# Altium footprint library SDR_wt_PCBlib.PcbLib: 47 footprints (part 2 of 3)
Each footprint in its own frame and in the unit in brackets; x right, y up, seen from the top. Pads: shape width x height; smd on the part's side, far side on the other; paste and mask are expansions set on the pad; w line width, h text height; cw(c..) or ccw(c..) is an arc to the next point about the centre after c.
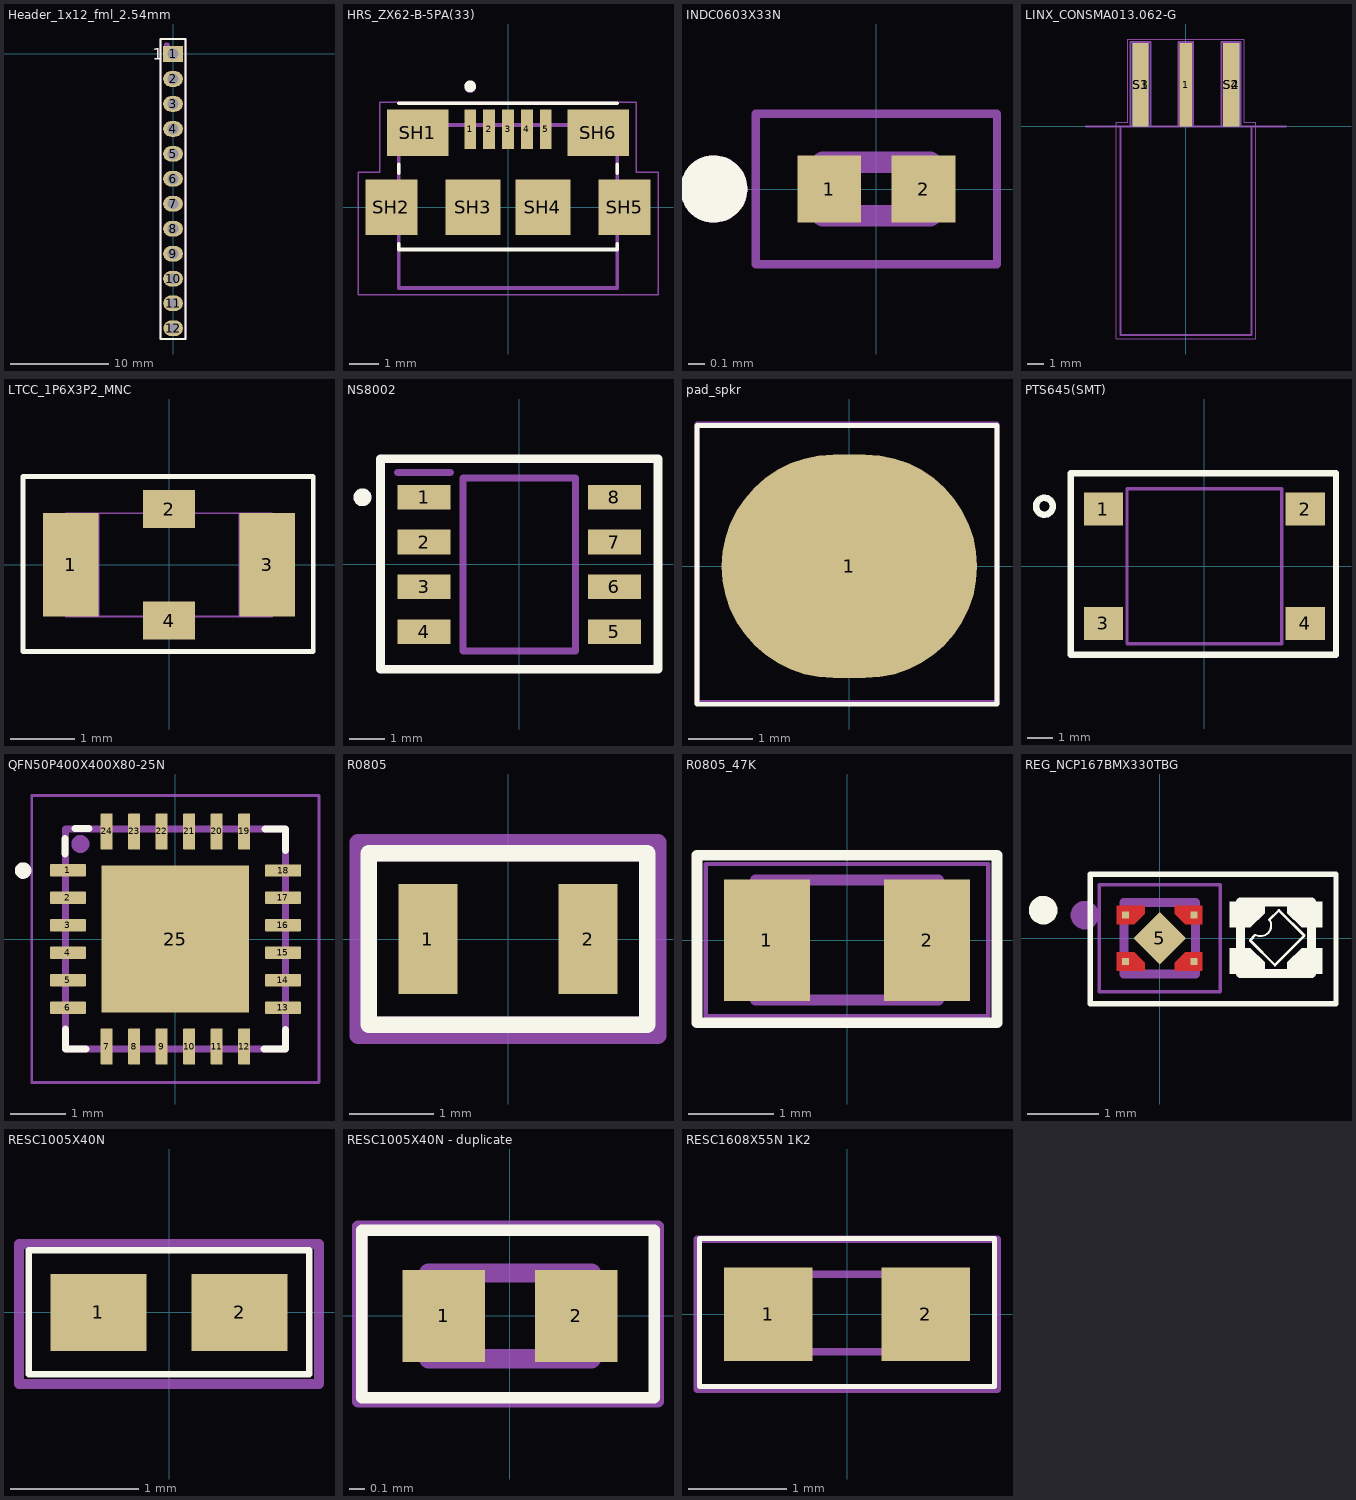
[diagram p1: the footprints below, top view; thin cyan lines are the x and y axes]

## Header_1x12_fml_2.54mm [mm]
pads (12):
  rect 2x1.6 hole 1.1: 1(0,0)
  oval 2x1.6 hole 1.1: 2(0,-2.54) 3(0,-5.08) 4(0,-7.62) 5(0,-10.16) 6(0,-12.7) 7(0,-15.24) 8(0,-17.78) 9(0,-20.32) 10(0,-22.86) 11(0.004,-25.359) 12(0.016,-27.897)
Top Overlay:
  lines w0.2: -1.27,-28.988 -1.27,1.524 0,1.524 1.27,1.524 1.27,-28.988 -1.27,-28.988
  text "1" at -2.086,-0.562 h1.2
Mechanical 1:
  circle w0.25: c-0.635,0.889 r0.18
  lines w0.2: -1.27,-28.988 -1.27,1.524 1.27,1.524 1.27,-28.988 -1.27,-28.988
Mechanical 29:
  lines w0.2: -1.27,-28.975 1.27,-28.975 1.27,1.524 -1.27,1.524 -1.27,-28.975
  text "'.Designator'" at 0.391,-12.729 h1.2

## HRS_ZX62-B-5PA(33) [mm]
pads (11):
  rect 0.4x1.35 smd: 1(-1.3,2.675) 2(-0.65,2.675) 3(0,2.675) 4(0.65,2.675) 5(1.3,2.675)
  rect 2.1x1.6 smd: SH1(-3.1,2.55) SH6(3.1,2.55)
  rect 1.8x1.9 smd: SH2(-4,0) SH5(4,0)
  rect 1.9x1.9 smd: SH3(-1.2,0) SH4(1.2,0)
Top Overlay:
  circle w0.2: c-1.3,4.15 r0.1
  lines w0.127: -3.75,-1.25 -3.75,-1.45 3.75,-1.45 3.75,-1.25 ; -3.75,1.17 -3.75,1.47 ; -3.75,3.57 3.75,3.57 ; 3.75,1.17 3.75,1.47
Mechanical 15:
  lines w0.05: -5.15,-3 -5.15,1.2 -4.4,1.2 -4.4,3.6 4.4,3.6 4.4,1.2 5.15,1.2 5.15,-3 -5.15,-3
Mechanical 29:
  circle w0.2: c-1.3,4.125 r0.1
  lines w0.127: -3.75,-2.775 -3.75,2.825 3.75,2.825 3.75,-1.475 3.75,-2.775 -3.75,-2.775
  text "'.Designator'" at -2.746,-0.791 h1.14
3D body "ZX62-B-5PA-33---3DModel-STEP-1.STEP": height 2.81, standoff -0.14, extent -4.037,-2.425 4.037,3.175

## INDC0603X33N [mm]
pads (2):
  rect 0.38x0.4 smd: 1(-0.281,0) 2(0.281,0)
Top Overlay:
  circle w0.2: c-0.968,0 r0.1
Mechanical 13:
  circle w0.2: c-0.968,0 r0.1
  lines w0.127: -0.32,-0.16 -0.32,0.16 0.32,0.16 0.32,-0.16 -0.32,-0.16
Mechanical 15:
  lines w0.05: -0.718,-0.448 -0.718,0.448 0.718,0.448 0.718,-0.448 -0.718,-0.448

## LINX_CONSMA013.062-G [mm]
pads (5):
  rect 0.76x5.08 smd: 1(0,2.54)
  rect 1x5.08 smd: S1(-2.77,2.54) S2(2.77,2.54)
  rect 1x5.08 smd far side: S3(-2.77,2.54) S4(2.77,2.54)
Mechanical 29:
  lines w0.05: -4.249,-12.953 4.251,-12.953 4.251,0.247 3.551,0.247 3.551,5.327 -3.549,5.327 -3.549,0.247 -4.249,0.247 -4.249,-12.953
  lines w0.127: -6.089,-0.003 -3.999,-0.003 ; -3.174,-0.003 -3.999,-0.003 ; -2.174,-0.003 -0.374,-0.003 ; 0.376,-0.003 -0.453,-0.003 -0.453,5.138 0.435,5.138 0.435,-0.003 2.176,-0.003 ; 3.176,-0.003 4.001,-0.003 ; 6.091,-0.003 4.001,-0.003 ; -3.999,-0.003 -3.999,-12.703 4.001,-12.703 4.001,-0.003 ; 2.176,-0.003 2.176,5.133 3.329,5.133 3.329,-0.003 2.176,-0.003 ; -3.372,-0.003 -3.372,5.138 -2.159,5.138 -2.159,-0.003 -3.372,-0.003
  text "PCB Edge" at 5.001,-0.973 h0.81
3D body "CONSMA013.062-G--3DModel-STEP-56544.STEP": height 4.36, standoff -3.64, extent -4.607,-12.373 4.631,5.077

## LTCC_1P6X3P2_MNC [mil]
pads (4):
  rect 34x63 smd paste+0 mask+0: 1(-60,0) 3(60,0)
  rect 32x23 smd paste+0 mask+0: 2(0,34) 4(0,-34)
Top Overlay:
  lines w3: -89,-53 88,-53 88,54 -89,54 -89,-53
Mechanical 29:
  lines w1: -63,-31.5 -63,31.5 ; -63,-31.5 -43,-31.5 -43,31.5 -63,31.5 ; -63,-31.5 63,-31.5 ; -63,-31.5 -63,31.5 ; -63,31.5 63,31.5 ; 63,-31.5 43,-31.5 43,31.5 63,31.5 ; 63,-31.5 63,31.5 ; 63,-31.5 63,31.5
  text "'.Designator'" at -62.13,-27.13 h45
3D body "LTCC_1P6X3P2_MNC.step": height 37.01, standoff 0, extent -62.99,-31.49 63,31.51
3D body: height 10, standoff 0, extent 0,0 10,10

## NS8002 [mm]
pads (8):
  rect 1.5x0.7 smd: 1(-2.7,1.905) 2(-2.7,0.635) 3(-2.7,-0.635) 4(-2.7,-1.905) 5(2.7,-1.905) 6(2.7,-0.635) 7(2.7,0.635) 8(2.7,1.905)
Top Overlay:
  circle w0.254: c-4.445,1.905 r0.127
  lines w0.25: -3.937,-2.972 3.937,-2.972 3.937,2.997 -3.937,2.997 -3.937,-2.972
Mechanical 29:
  lines w0.2: -3.45,2.605 -1.95,2.605 ; -1.6,-2.45 -1.6,2.45 1.6,2.45 1.6,-2.45 -1.6,-2.45
  text "'.Designator'" at -5.769,-0.308 h1.14
3D body "NS8002.stp": height 1.65, standoff 0, extent -2.963,-2.475 3.037,2.425

## pad_spkr [mm]
pads (1):
  oval 4x3.5 smd: 1(0,0)
Top Overlay:
  lines w0.076: -2.388,-2.159 2.311,-2.159 2.311,-1.245 2.311,2.21 -2.388,2.21 -2.388,-2.159
Mechanical 29:
  lines w0.076: -2.388,-2.134 2.311,-2.134 2.311,-1.219 2.311,2.235 -2.388,2.235 -2.388,-2.134
  text "'.Designator'" at -5.769,-0.435 h1.14

## PCBComponent_1 [mm]

## PTS645(SMT) [mil]
pads (4):
  rect 61.02x51.18 smd: 1(-156.5,88.58) 2(156.5,88.58) 3(-156.5,-88.58) 4(156.5,-88.58)
Top Overlay:
  circle w10: c-248,93 r13.04
  lines w10: -207,-137 204,-137 204,144 -207,144 -207,-137
Mechanical 29:
  lines w5: -120,-120 -120,120 -110,120 120,120 120,-120 -120,-120
  text "'.Designator'" at -232.13,-17.13 h45
3D body "PTS645SM43SMTR92LFS.stp": height 169.29, standoff 0, extent -177.16,-118.1 177.17,118.11

## QFN50P400X400X80-25N [mm]
pads (25):
  rrect10% 0.65x0.22 smd: 1(-1.955,1.25) 2(-1.955,0.75) 3(-1.955,0.25) 4(-1.955,-0.25) 5(-1.955,-0.75) 6(-1.955,-1.25) 13(1.955,-1.25) 14(1.955,-0.75) 15(1.955,-0.25) 16(1.955,0.25) 17(1.955,0.75) 18(1.956,1.245)
  rrect10% 0.22x0.65 smd: 7(-1.25,-1.955) 8(-0.75,-1.955) 9(-0.25,-1.955) 10(0.25,-1.955) 11(0.75,-1.955) 12(1.25,-1.955) 19(1.25,1.955) 20(0.75,1.955) 21(0.25,1.955) 22(-0.25,1.955) 23(-0.75,1.955) 24(-1.25,1.955)
  rect 2.68x2.68 smd paste-2: 25(0,0)
Top Overlay:
  circle w0.15: c-2.769,1.245 r0.075
  lines w0.127: -2.007,1.549 -2.007,1.829 ; -2,-1.639 -2,-2 -1.625,-2 ; -1.829,2.007 -1.575,2.007 ; 1.612,-2 2,-2 2,-1.643 ; 1.628,2 2,2 2,1.606
Top Paste:
  region: -0.13,0.13 -1.091,0.13 -1.091,1.09 -0.13,1.09
  region: 1.09,0.13 0.13,0.13 0.13,1.09 1.09,1.09
  region: 1.09,-1.09 0.13,-1.09 0.13,-0.13 1.09,-0.13
  region: -0.13,-1.092 -1.092,-1.092 -1.092,-0.13 -0.13,-0.13
Top Solder:
  region: 1.45,-1.453 -1.453,-1.453 -1.453,1.45 1.45,1.45
Mechanical 1:
  circle w0.254: c-1.727,1.727 r0.036
Mechanical 15:
  lines w0.05: -2.61,-2.61 2.61,-2.61 2.61,2.61 -2.61,2.61 -2.61,-2.61
Mechanical 29:
  circle w0.15: c-1.727,1.727 r0.075
  lines w0.127: -2,-2 2,-2 2,2 -2,2 -2,-2
  text "'.Designator'" at -2.188,-1.477 h1.14
3D body "CP2104--3DModel-STEP-56544.STEP": height 0.81, standoff 0.01, extent -2,-2 2,2

## R0805 [mm]
pads (2):
  rect 0.7x1.3 smd: 1(-0.95,0) 2(0.95,0)
Top Overlay:
  lines w0.2: -1.651,-1.016 1.651,-1.016 1.651,1.016 -1.651,1.016 -1.651,-1.016
Mechanical 15:
  lines w0.2: -1.778,-1.143 1.778,-1.143 1.778,1.143 -1.778,1.143 -1.778,-1.143
Mechanical 29:
  lines w0.2: -1.651,-1.016 1.651,-1.016 1.651,1.016 -1.651,1.016 -1.651,-1.016
  text "'.Designator'" at -1.448,-0.601 h0.64
3D body "User Library-Chip Resistor2.step": height 0.71, standoff 0.01, extent -1,-0.6 1,0.6

## R0805_47K [mm]
pads (2):
  rect 1x1.42 smd: 1(-0.935,0) 2(0.935,0)
Top Overlay:
  lines w0.127: -1.753,-0.965 1.753,-0.965 1.753,0.991 -1.753,0.991 -1.753,-0.965
Mechanical 15:
  lines w0.05: -1.651,-0.889 -1.651,-0.445 -1.651,0.445 -1.651,0.889 1.651,0.889 1.651,-0.889 -1.651,-0.889
Mechanical 29:
  lines w0.127: -1.07,-0.7 1.07,-0.7 1.07,0.7 -1.07,0.7 -1.07,-0.7
  text "'.Designator'" at -0.838,-0.5 h0.25
3D body "47k_CRGCQ0805F47K.STEP": height 0.66, standoff 0.01, extent -1,-0.625 1,0.625

## REG_NCP167BMX330TBG [mm]
pads (5):
  rect 0.1x0.1 smd paste-1 mask+0: 1(-0.48,0.325) 2(-0.48,-0.325) 3(0.48,-0.325) 4(0.48,0.325)
  rect 0.52x0.52 smd rot 135 paste-1 mask+0: 5(0,0)
Top Layer:
  region: 0.6,0.195 0.36,0.195 0.21,0.345 0.21,0.455 0.6,0.455
  region: -0.21,0.345 -0.36,0.195 -0.6,0.195 -0.6,0.455 -0.21,0.455
  region: -0.21,-0.345 -0.21,-0.455 -0.6,-0.455 -0.6,-0.195 -0.36,-0.195
  region: 0.6,-0.455 0.21,-0.455 0.21,-0.345 0.36,-0.195 0.6,-0.195
Top Overlay:
  circle w0.2: c-1.636,0.395 r0.1
  region: 1.259,-0.041 1.257,-0.039 1.254,-0.033 1.254,-0.027 1.256,-0.021 1.258,-0.019 1.33,0.053 1.333,0.056 1.342,0.058 1.351,0.055 1.356,0.047 1.356,0.043 1.291,-0.029 1.617,-0.355 2.009,0.037 1.674,0.372 1.551,0.25 1.547,0.245 1.534,0.245 1.525,0.254 1.525,0.267 1.529,0.272 1.654,0.397 1.657,0.401 1.665,0.406 1.674,0.408 1.683,0.405 1.687,0.402 2.041,0.048 2.042,0.045 2.044,0.04 2.044,0.034 2.042,0.029 2.041,0.026 1.627,-0.388 1.625,-0.39 1.62,-0.392 1.614,-0.392 1.608,-0.39 1.606,-0.388
  region: 2.283,0.153 1.993,0.153 1.793,0.353 1.793,0.513 2.283,0.513
  region: 1.473,0.353 1.273,0.153 0.983,0.153 0.983,0.513 1.473,0.513
  region: 1.473,-0.337 1.473,-0.497 0.983,-0.497 0.983,-0.137 1.273,-0.137
  region: 2.283,-0.497 1.793,-0.497 1.793,-0.337 1.993,-0.137 2.283,-0.137
  region: 1.423,0.353 1.273,0.203 1.033,0.203 1.033,0.463 1.423,0.463
  region: 2.233,0.203 1.993,0.203 1.843,0.353 1.843,0.463 2.233,0.463
  region: 1.423,-0.337 1.423,-0.447 1.033,-0.447 1.033,-0.187 1.273,-0.187
  lines w0.03: 1.342,0.048 ccw(c1.414,0.18) 1.542,0.259
  lines w0.076: 2.474,0.898 -0.973,0.898 -0.973,-0.918 2.474,-0.918 2.474,0.898 ; 2.474,0.898 2.474,0.898
  lines w0.127: 1.133,-0.492 2.133,-0.492 2.133,0.508 1.133,0.508 1.133,-0.492
Top Paste:
  region: -0.21,0.345 -0.36,0.195 -0.6,0.195 -0.6,0.455 -0.21,0.455
  region: 0.6,-0.455 0.21,-0.455 0.21,-0.345 0.36,-0.195 0.6,-0.195
  region: 0.6,0.195 0.36,0.195 0.21,0.345 0.21,0.455 0.6,0.455
  region: -0.21,-0.345 -0.21,-0.455 -0.6,-0.455 -0.6,-0.195 -0.36,-0.195
  region: 0.164,-0.164 -0.164,-0.164 -0.164,0.164 0.164,0.164
Top Solder:
  region: 0.65,0.145 0.36,0.145 0.16,0.345 0.16,0.505 0.65,0.505
  region: -0.16,0.345 -0.36,0.145 -0.65,0.145 -0.65,0.505 -0.16,0.505
  region: -0.16,-0.345 -0.16,-0.505 -0.65,-0.505 -0.65,-0.145 -0.36,-0.145
  region: 0.65,-0.505 0.16,-0.505 0.16,-0.345 0.36,-0.145 0.65,-0.145
  region: 0.4,0 0,-0.4 -0.4,0 0,0.4
Mechanical 15:
  lines w0.05: -0.85,-0.75 -0.85,0.75 0.85,0.75 0.85,-0.75 -0.85,-0.75
Mechanical 29:
  circle w0.2: c-1.05,0.325 r0.1
  lines w0.127: -0.5,-0.5 0.5,-0.5 0.5,0.5 -0.5,0.5 -0.5,-0.5
3D body "NCP167BMX330TBG.STEP": height 0.44, standoff 0.01, extent -0.5,-0.5 0.5,0.5

## RESC1005X40N [mm]
pads (2):
  rect 0.75x0.6 smd: 1(-0.55,0) 2(0.55,0)
Top Overlay:
  lines w0.05: -1.092,-0.483 1.092,-0.483 1.092,0.483 -1.092,0.483 -1.092,-0.483
Mechanical 15:
  lines w0.076: -1.168,-0.533 -1.143,-0.559 1.168,-0.559 1.168,0.533 -1.168,0.533 -1.168,-0.533
Mechanical 29:
  lines w0.076: -1.168,-0.559 1.168,-0.559 1.168,0.533 -1.168,0.533 -1.168,-0.559
  text "'.Designator'" at -1.092,-0.271 h0.64
3D body "0402WGF4700TCE.stp": height 0.4, standoff 0, extent -0.5,-0.25 0.5,0.25

## RESC1005X40N - duplicate [mm]
pads (2):
  rect 0.54x0.6 smd: 1(-0.432,0) 2(0.432,0)
Top Overlay:
  lines w0.076: -0.965,-0.533 -0.965,0.559 0.94,0.559 0.94,-0.533 -0.965,-0.533
Mechanical 7:
  lines w0.076: -0.991,-0.559 -0.991,0.584 0.965,0.584 0.965,-0.559 -0.991,-0.559
Mechanical 15:
  lines w0.05: -0.95,-0.55 -0.95,0.55 0.95,0.55 0.95,-0.55 -0.95,-0.55
Mechanical 29:
  lines w0.127: -0.53,-0.28 0.53,-0.28 0.53,0.28 -0.53,0.28 -0.53,-0.28
  text "'.Designator'" at -0.686,-0.263 h0.51
3D body "RC0402JR-075K1L.STEP": height 0.41, standoff 0.01, extent -0.5,-0.25 0.5,0.25

## RESC1608X55N 1K2 [mil]
pads (2):
  rect 35.43x37.4 smd: 1(-31.5,0) 2(31.5,0)
Top Overlay:
  lines w1.97: -59.06,-28.78 -59.06,30.28 59.06,30.28 59.06,-28.78 -59.06,-28.78
Mechanical 15:
  lines w3: -60,-30 -60,30 60,30 60,-30 -60,-30
Mechanical 29:
  lines w3: -31,-15 -31,16 31,16 31,-15 -31,-15
  text "'.Designator'" at -52,-13.67 h25
3D body "0603WAF1201T5E.stp": height 21.65, standoff 0, extent -31.49,-15.74 31.5,15.75